# Altium footprint library LEDs.PcbLib: 1 footprints
Each footprint in its own frame and in the unit in brackets; x right, y up, seen from the top. Pads: shape width x height; smd on the part's side, far side on the other; paste and mask are expansions set on the pad; w line width, h text height; cw(c..) or ccw(c..) is an arc to the next point about the centre after c.
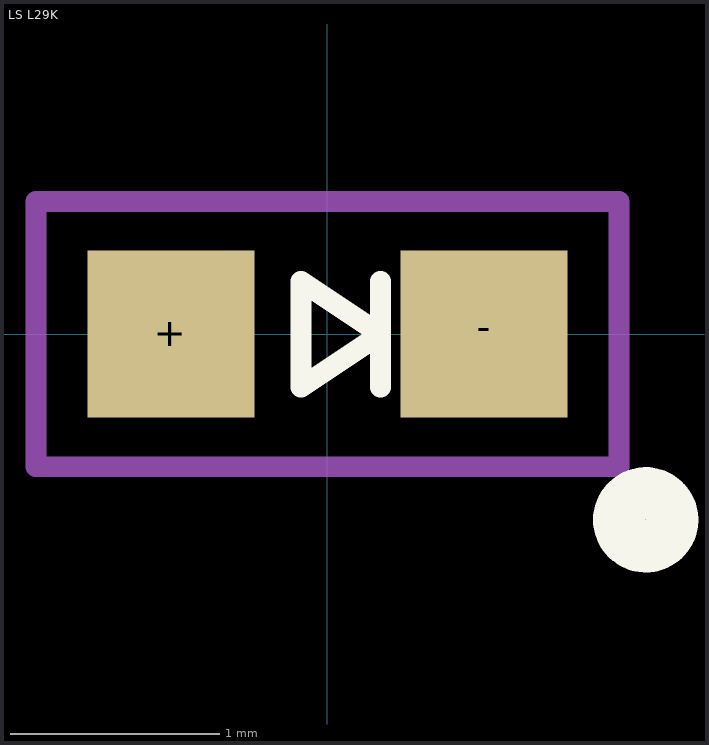
[diagram p0: the footprint, top view; thin cyan lines are the x and y axes]

## LS L29K [mm] "0603"
height 0.65
pads (2):
  rect 0.8x0.8 smd: +(-0.75,0) -(0.75,0)
Top Overlay:
  circle w0.25: c1.524,-0.889 r0.127
  lines w0.1: 0.254,-0.254 0.254,0.254 ; -0.127,-0.254 0.254,0 -0.127,0.254 -0.127,-0.254
Mechanical 15:
  lines w0.1: -1.397,-0.635 -1.397,0.635 1.397,0.635 1.397,-0.635 -1.397,-0.635